# Altium footprint library Library v1.9.PcbLib: 90 footprints (part 6 of 6)
Each footprint in its own frame and in the unit in brackets; x right, y up, seen from the top. Pads: shape width x height; smd on the part's side, far side on the other; paste and mask are expansions set on the pad; w line width, h text height; cw(c..) or ccw(c..) is an arc to the next point about the centre after c.
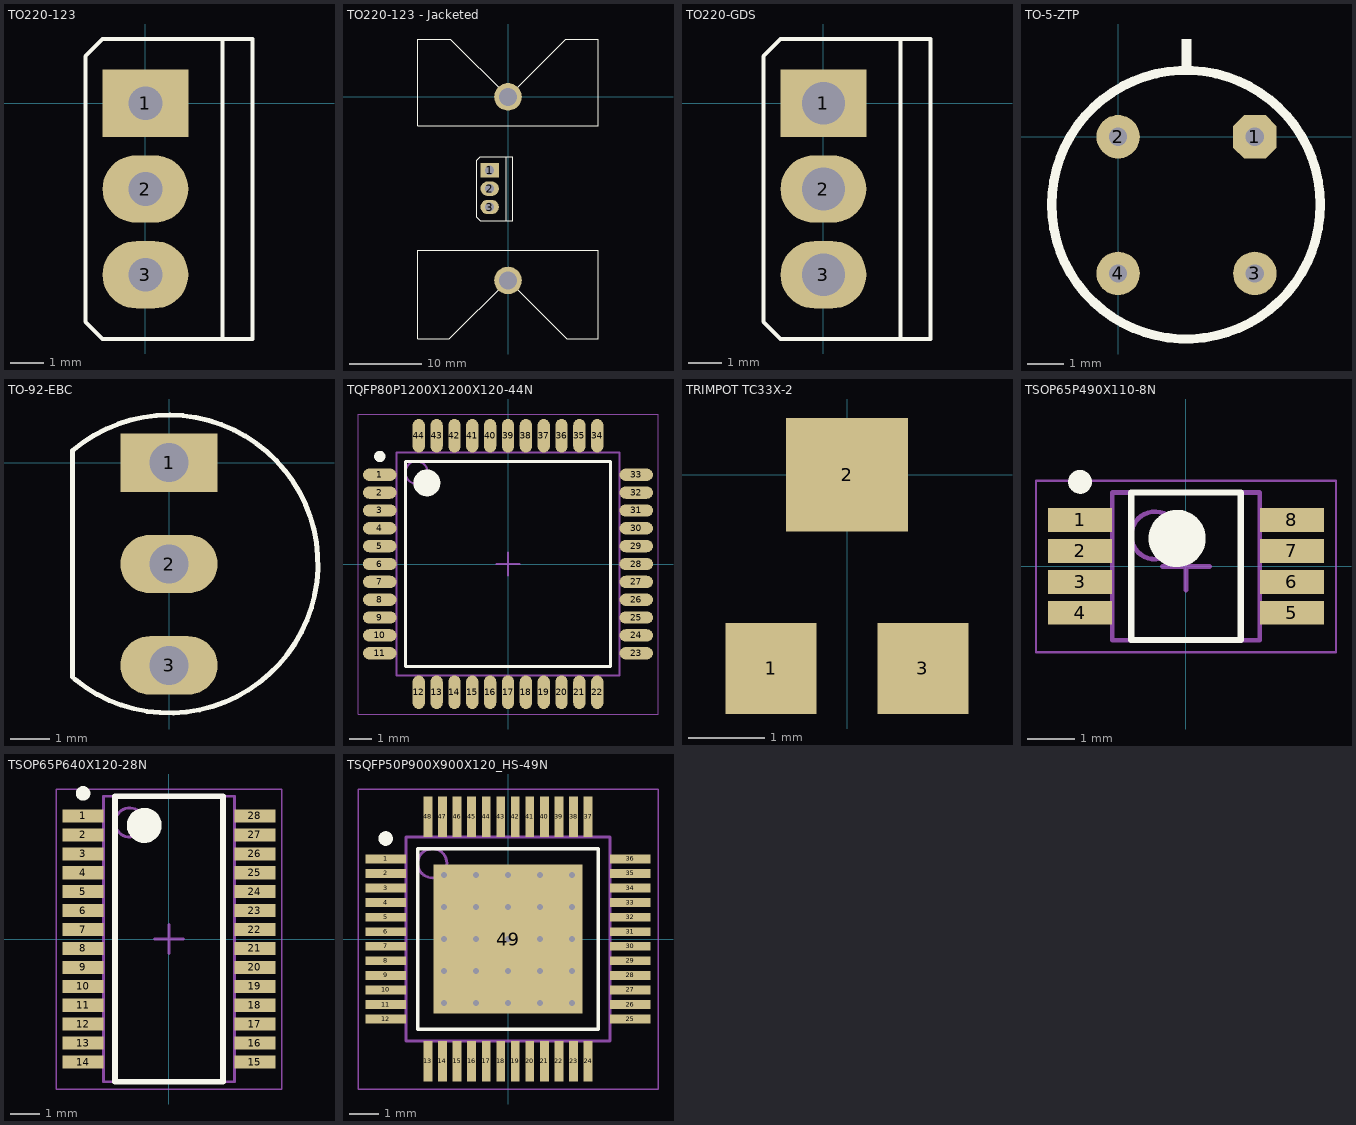
[diagram p5: the footprints below, top view; thin cyan lines are the x and y axes]

## TO220-123 [mm]
pads (3):
  rect 2.54x2 hole 1: 1(0,0)
  oval 2.54x2 hole 1: 2(0,-2.54) 3(0,-5.08)
Top Overlay:
  lines w0.127: -1.778,-6.35 -1.778,-6.477 ; -1.778,1.27 -1.778,1.397 ; 1.905,-6.985 3.175,-6.985 3.175,1.905 2.286,1.905 ; -1.778,-6.477 -1.27,-6.985 ; -1.778,-6.477 -1.27,-6.985 ; -1.778,-6.477 -1.778,1.397 ; -1.778,1.397 -1.27,1.905 ; -1.778,1.397 -1.27,1.905 ; -1.27,-6.985 2.286,-6.985 2.286,-6.35 2.286,1.27 2.286,1.905 ; -1.27,1.905 2.286,1.905

## TO220-123 - Jacketed [mm]
pads (5):
  rect 2.54x2 hole 1.27: 1(-2.54,-10.16)
  oval 2.54x2 hole 1.27: 2(-2.54,-12.7) 3(-2.54,-15.24)
  round 3.81 hole 2.5 unplated: ""(0,-25.4)
  round 3.81 hole 2.5: ""(0,0)
Top Overlay:
  lines w0.127: -4.318,-16.51 -4.318,-16.637 ; -4.318,-8.89 -4.318,-8.763 ; -0.635,-17.145 0.635,-17.145 0.635,-8.255 -0.254,-8.255 ; -4.318,-16.637 -4.318,-8.763 ; -4.318,-16.637 -3.81,-17.145 ; -4.318,-16.637 -3.81,-17.145 ; -4.318,-8.763 -3.81,-8.255 ; -4.318,-8.763 -3.81,-8.255 ; -3.81,-17.145 -0.254,-17.145 -0.254,-16.51 -0.254,-8.89 -0.254,-8.255 ; -3.81,-8.255 -0.254,-8.255 ; 8,8 0,0 -8,8 -12.5,8 -12.5,-4 12.5,-4 12.5,8 ; 8,8 12.5,8 ; 8,8 12.5,8 ; -12.5,-33.5 -8.1,-33.5 0,-25.4 8.1,-33.5 12.5,-33.5 12.5,-21.25 -12.5,-21.25 -12.5,-33.5
3D body: height 0.25, standoff 0, extent -3.5,-8.25 -3.5,-8.25
3D body: height 5, standoff 0, extent -12.5,-33.5 12.5,-21.25
3D body: height 5, standoff 0, extent -12.5,-4 12.5,8

## TO220-GDS [mm]
pads (3):
  rect 2.54x2 hole 1.27: 1(0,0)
  oval 2.54x2 hole 1.27: 2(0,-2.54) 3(0,-5.08)
Top Overlay:
  lines w0.127: -1.778,-6.35 -1.778,-6.477 ; -1.778,1.27 -1.778,1.397 ; 1.905,-6.985 3.175,-6.985 3.175,1.905 2.286,1.905 ; -1.778,-6.477 -1.27,-6.985 ; -1.778,-6.477 -1.27,-6.985 ; -1.778,-6.477 -1.778,1.397 ; -1.778,1.397 -1.27,1.905 ; -1.778,1.397 -1.27,1.905 ; -1.27,-6.985 2.286,-6.985 2.286,-6.35 2.286,1.27 2.286,1.905 ; -1.27,1.905 2.286,1.905

## TO-5-ZTP [mm]
pads (4):
  oct 1.2x1.2 hole 0.5: 1(3.775,0)
  round 1.2 hole 0.5: 2(0,0) 3(3.775,-3.775) 4(0,-3.775)
Top Overlay:
  circle w0.254: c1.875,-1.875 r3.71
  rectangle: 1.75,1.8 2.025,2.7

## TO-92-EBC [mm]
pads (3):
  rect 2.5x1.5 hole 1: 1(0,0)
  oval 2.5x1.5 hole 1: 2(0,-2.6) 3(0,-5.2)
Top Overlay:
  lines w0.127: -2.477,-5.5 -2.477,0.312 cw(c0,-2.6) -2.407,-5.57

## TQFP80P1200X1200X120-44N [mm] "TQFP, 44-Leads, Body 10.00x10.00mm, Pitch 0.80mm, IPC Medium Density"
height 1.2
pads (44):
  oval 1.5x0.55 smd: 1(-5.75,4) 2(-5.75,3.2) 3(-5.75,2.4) 4(-5.75,1.6) 5(-5.75,0.8) 6(-5.75,0) 7(-5.75,-0.8) 8(-5.75,-1.6) 9(-5.75,-2.4) 10(-5.75,-3.2) 11(-5.75,-4) 23(5.75,-4) 24(5.75,-3.2) 25(5.75,-2.4) 26(5.75,-1.6) 27(5.75,-0.8) 28(5.75,0) 29(5.75,0.8) 30(5.75,1.6) 31(5.75,2.4) 32(5.75,3.2) 33(5.75,4)
  oval 0.55x1.5 smd: 12(-4,-5.75) 13(-3.2,-5.75) 14(-2.4,-5.75) 15(-1.6,-5.75) 16(-0.8,-5.75) 17(0,-5.75) 18(0.8,-5.75) 19(1.6,-5.75) 20(2.4,-5.75) 21(3.2,-5.75) 22(4,-5.75) 34(4,5.75) 35(3.2,5.75) 36(2.4,5.75) 37(1.6,5.75) 38(0.8,5.75) 39(0,5.75) 40(-0.8,5.75) 41(-1.6,5.75) 42(-2.4,5.75) 43(-3.2,5.75) 44(-4,5.75)
Top Overlay:
  circle w0.25: c-5.75,4.825 r0.125
  circle w0.6: c-3.637,3.637 r0.3
  lines w0.127: -4.6,-4.6 -4.6,4.6 4.6,4.6 4.6,-4.6 -4.6,-4.6
Mechanical 13:
  circle w0.1: c-4.1,4.1 r0.5
  lines w0.1: -5,-5 -5,5 5,5 5,-5 -5,-5
Mechanical 15:
  lines w0.05: -6.725,-6.725 -6.725,6.725 6.725,6.725 6.725,-6.725 -6.725,-6.725
  lines w0.1: -0.5,0 0.5,0 ; 0,-0.5 0,0.5
3D body "TQFP80P1200X1200X120-44N.step": height 1.2, standoff 0, extent -6,-6 6,6

## TRIMPOT TC33X-2 [mm]
height 1.2
pads (3):
  rect 1.2x1.2 smd: 1(-1,-2.55) 3(1,-2.55)
  rect 1.6x1.5 smd: 2(0,0)
3D body "TC-33X-2.stp": height 1.13, standoff -0.02, extent -1.8,-3.181 1.8,0.781

## TSOP65P490X110-8N [mm] "TSOP, 8-Leads, Body 3.00x3.00mm, Pitch 0.65mm, IPC Medium Density"
height 1.1
pads (8):
  rect 1.35x0.5 smd: 1(-2.225,0.975) 2(-2.225,0.325) 3(-2.225,-0.325) 4(-2.225,-0.975) 5(2.225,-0.975) 6(2.225,-0.325) 7(2.225,0.325) 8(2.225,0.975)
Top Overlay:
  circle w0.25: c-2.225,1.775 r0.125
  circle w0.6: c-0.186,0.586 r0.3
  lines w0.127: -1.15,-1.55 -1.15,1.55 1.15,1.55 1.15,-1.55 -1.15,-1.55
Mechanical 13:
  circle w0.1: c-0.65,0.65 r0.5
  lines w0.1: -1.55,-1.55 -1.55,1.55 1.55,1.55 1.55,-1.55 -1.55,-1.55
Mechanical 15:
  lines w0.05: -3.15,-1.8 -3.15,1.8 3.15,1.8 3.15,-1.8 -3.15,-1.8
  lines w0.1: -0.5,0 0.5,0 ; 0,-0.5 0,0.5
3D body "TSOP65P490X110-8N.step": height 1.1, standoff 0, extent -2.45,-1.55 2.45,1.55

## TSOP65P640X120-28N [mm] "TSOP, 28-Leads, Body 9.70x4.40mm, Pitch 0.65mm, IPC Medium Density"
height 1.2
pads (28):
  rect 1.4x0.45 smd: 1(-2.95,4.225) 2(-2.95,3.575) 3(-2.95,2.925) 4(-2.95,2.275) 5(-2.95,1.625) 6(-2.95,0.975) 7(-2.95,0.325) 8(-2.95,-0.325) 9(-2.95,-0.975) 10(-2.95,-1.625) 11(-2.95,-2.275) 12(-2.95,-2.925) 13(-2.95,-3.575) 14(-2.95,-4.225) 15(2.95,-4.225) 16(2.95,-3.575) 17(2.95,-2.925) 18(2.95,-2.275) 19(2.95,-1.625) 20(2.95,-0.975) 21(2.95,-0.325) 22(2.95,0.325) 23(2.95,0.975) 24(2.95,1.625) 25(2.95,2.275) 26(2.95,2.925) 27(2.95,3.575) 28(2.95,4.225)
Top Overlay:
  circle w0.6: c-0.85,3.9 r0.3
  circle w0.25: c-2.95,5 r0.125
  lines w0.2: -1.85,-4.9 1.85,-4.9 1.85,4.9 -1.85,4.9 -1.85,-4.9
Mechanical 13:
  circle w0.1: c-1.35,4 r0.5
  lines w0.1: -2.25,-4.9 2.25,-4.9 2.25,4.9 -2.25,4.9 -2.25,-4.9
Mechanical 15:
  lines w0.05: -3.875,-5.15 3.875,-5.15 3.875,5.15 -3.875,5.15 -3.875,-5.15
  lines w0.1: -0.5,0 0.5,0 ; 0,-0.5 0,0.5
3D body "TSOP65P640X120-28N.step": height 1.2, standoff 0, extent -3.2,-4.9 3.2,4.9

## TSQFP50P900X900X120_HS-49N [mm] "TSQFP, 48-Leads, Body 7.00x7.00mm, Pitch 0.50mm, Thermal Pad 5.10x5.10mm, IPC Medium Density"
height 1.2
pads (49):
  rect 1.4x0.3 smd: 1(-4.2,2.75) 2(-4.2,2.25) 3(-4.2,1.75) 4(-4.2,1.25) 5(-4.2,0.75) 6(-4.2,0.25) 7(-4.2,-0.25) 8(-4.2,-0.75) 9(-4.2,-1.25) 10(-4.2,-1.75) 11(-4.2,-2.25) 12(-4.2,-2.75) 25(4.2,-2.75) 26(4.2,-2.25) 27(4.2,-1.75) 28(4.2,-1.25) 29(4.2,-0.75) 30(4.2,-0.25) 31(4.2,0.25) 32(4.2,0.75) 33(4.2,1.25) 34(4.2,1.75) 35(4.2,2.25) 36(4.2,2.75)
  rect 0.3x1.4 smd: 13(-2.75,-4.2) 14(-2.25,-4.2) 15(-1.75,-4.2) 16(-1.25,-4.2) 17(-0.75,-4.2) 18(-0.25,-4.2) 19(0.25,-4.2) 20(0.75,-4.2) 21(1.25,-4.2) 22(1.75,-4.2) 23(2.25,-4.2) 24(2.75,-4.2) 37(2.75,4.2) 38(2.25,4.2) 39(1.75,4.2) 40(1.25,4.2) 41(0.75,4.2) 42(0.25,4.2) 43(-0.25,4.2) 44(-0.75,4.2) 45(-1.25,4.2) 46(-1.75,4.2) 47(-2.25,4.2) 48(-2.75,4.2)
  rect 5.1x5.1 smd: 49(0,0)
via -2.2,2.2 diameter 0.5 hole 0.2
via -1.1,2.2 diameter 0.5 hole 0.2
via 0,2.2 diameter 0.5 hole 0.2
via 1.1,2.2 diameter 0.5 hole 0.2
via 2.2,2.2 diameter 0.5 hole 0.2
via -2.2,1.1 diameter 0.5 hole 0.2
via -1.1,1.1 diameter 0.5 hole 0.2
via 0,1.1 diameter 0.5 hole 0.2
via 1.1,1.1 diameter 0.5 hole 0.2
via 2.2,1.1 diameter 0.5 hole 0.2
via -2.2,0 diameter 0.5 hole 0.2
via -1.1,0 diameter 0.5 hole 0.2
via 0,0 diameter 0.5 hole 0.2
via 1.1,0 diameter 0.5 hole 0.2
via 2.2,0 diameter 0.5 hole 0.2
via -2.2,-1.1 diameter 0.5 hole 0.2
via -1.1,-1.1 diameter 0.5 hole 0.2
via 0,-1.1 diameter 0.5 hole 0.2
via 1.1,-1.1 diameter 0.5 hole 0.2
via 2.2,-1.1 diameter 0.5 hole 0.2
via -2.2,-2.2 diameter 0.5 hole 0.2
via -1.1,-2.2 diameter 0.5 hole 0.2
via 0,-2.2 diameter 0.5 hole 0.2
via 1.1,-2.2 diameter 0.5 hole 0.2
via 2.2,-2.2 diameter 0.5 hole 0.2
Top Overlay:
  circle w0.25: c-4.2,3.45 r0.125
  lines w0.127: -3.1,-3.1 -3.1,3.1 3.1,3.1 3.1,-3.1 -3.1,-3.1
Mechanical 13:
  circle w0.1: c-2.6,2.6 r0.5
  lines w0.1: -3.5,-3.5 -3.5,3.5 3.5,3.5 3.5,-3.5 -3.5,-3.5
Mechanical 15:
  lines w0.05: -5.15,-5.15 -5.15,5.15 5.15,5.15 5.15,-5.15 -5.15,-5.15
  lines w0.1: -0.5,0 0.5,0 ; 0,-0.5 0,0.5
3D body "TSQFP50P900X900X120_HS-49N.step": height 1.2, standoff 0, extent -4.5,-4.5 4.5,4.5